# EAGLE library part LM5050 (library Power > Hot Swap Voltage Controllers)
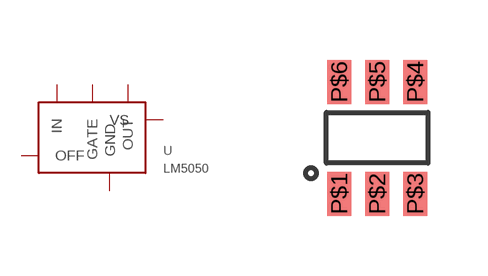
[diagram p0: symbol with the pads of SOT-23-6; footprint SOT-23-6]

Designator prefix U

## LM5050  [SOT-23-6]
P$1  VS
P$2  GND
P$3  OFF
P$4  IN
P$5  GATE
P$6  OUT

## Footprint SOT-23-6 (pad centres in mm)
5-Lead Plastic Small outline Transistor (OT) [SOT-23]
smd 0.6 x 1.1: P$1 -0.95,-1.4; P$2 0,-1.4; P$3 0.95,-1.4; P$4 0.95,1.4; P$5 0,1.4; P$6 -0.95,1.4